# Altium footprint library PCBlib.PcbLib: 34 footprints (part 1 of 3)
Each footprint in its own frame and in the unit in brackets; x right, y up, seen from the top. Pads: shape width x height; smd on the part's side, far side on the other; paste and mask are expansions set on the pad; w line width, h text height; cw(c..) or ccw(c..) is an arc to the next point about the centre after c.
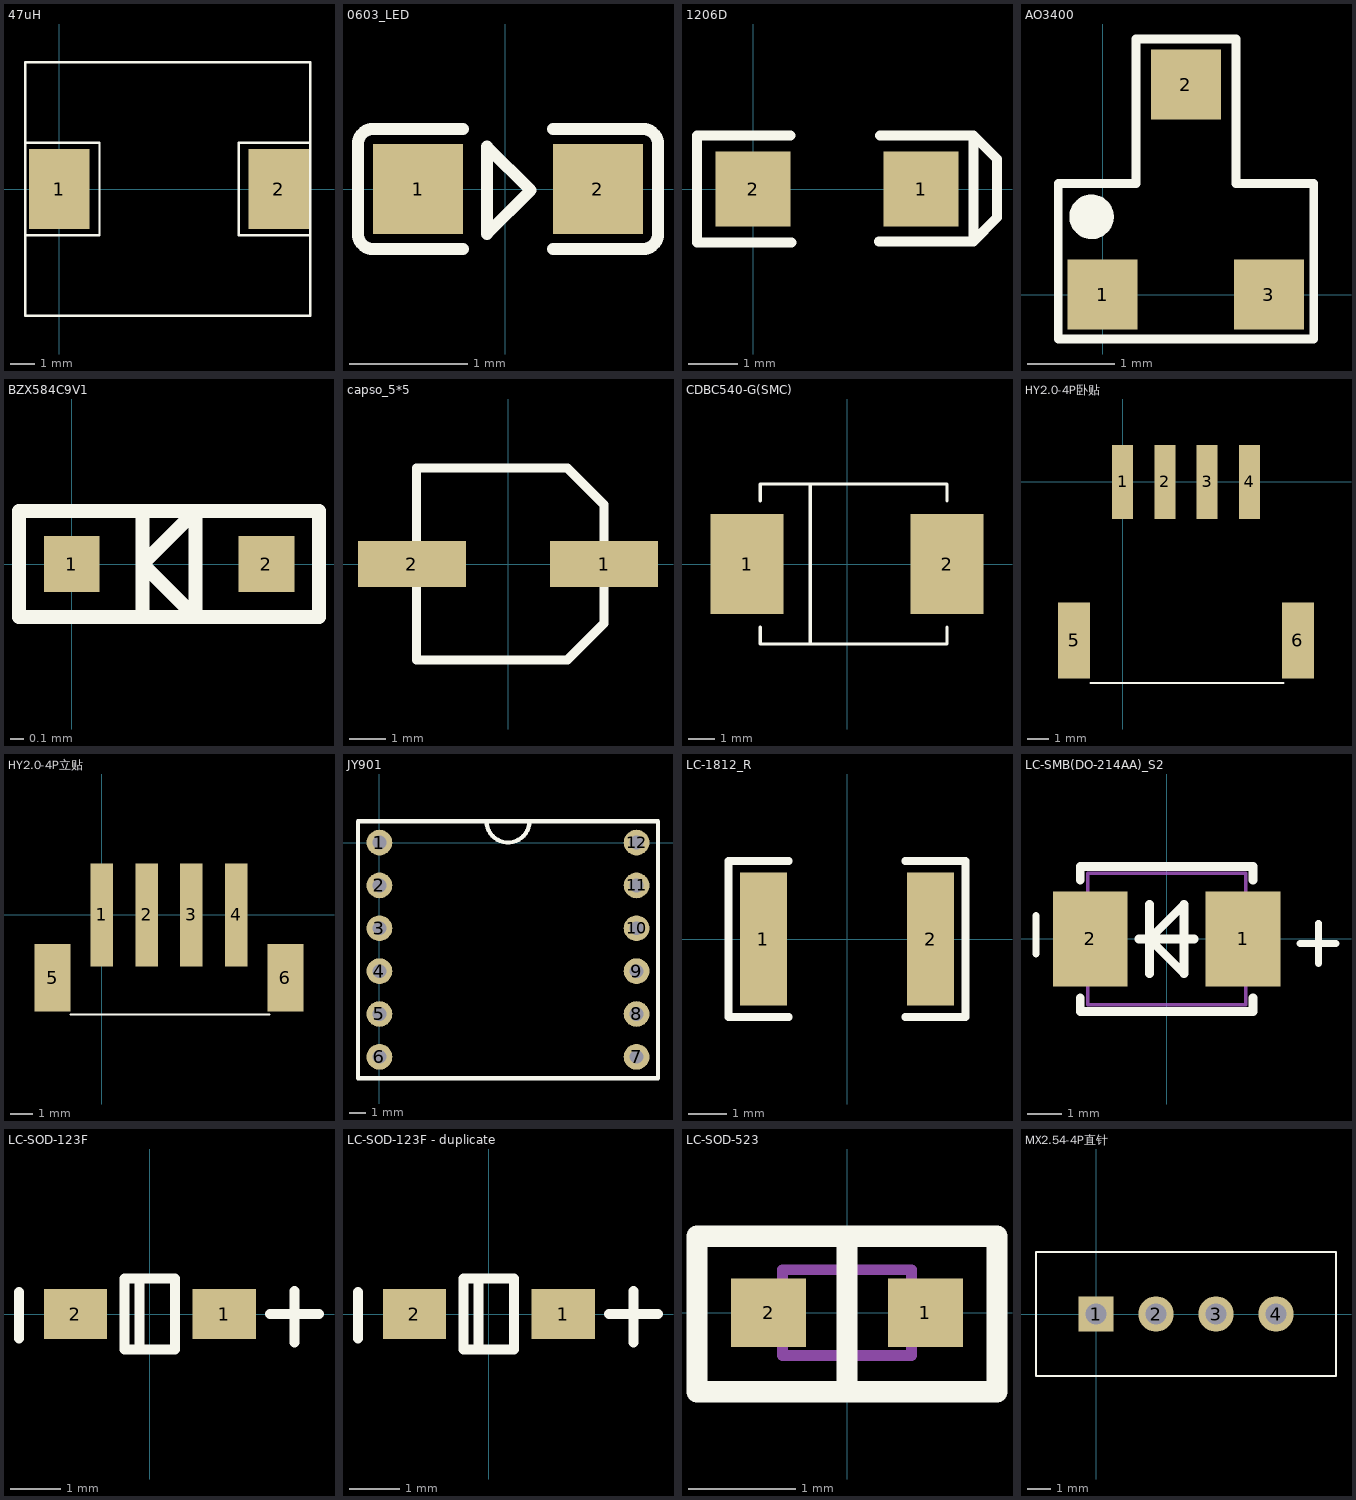
[diagram p0: the footprints below, top view; thin cyan lines are the x and y axes]

## 47uH [mm]
pads (2):
  rect 2.5x3.3 smd: 1(0,0) 2(9,0)
Top Overlay:
  lines w0.1: -1.397,-1.905 1.651,-1.905 1.651,1.905 -1.397,1.905 ; 10.294,-1.905 7.366,-1.905 7.366,1.905 10.294,1.905 ; -1.397,-5.2 -1.397,5.2 10.294,5.2 10.294,-5.2 -1.397,-5.2

## 0603_LED [mil]
pads (2):
  rect 30x30 smd: 1(-29,0) 2(31,0)
Top Overlay:
  lines w3.94: -6.02,-15 8.54,-0.43 -6.02,14.13 -6.02,-15
  lines w4: -14,-20 -44,-20 cw(c-44,-15) -49,-15 -49,15 cw(c-44,15) -44,20 -14,20 ; 16,-20 46,-20 ccw(c46,-15) 51,-15 51,15 ccw(c46,15) 46,20 16,20
3D body "led0805  green.step": height 43.31, standoff -0.5, extent -40,-25 40,25

## 1206D [mil]
pads (2):
  rect 60x60 smd: 1(135,0) 2(0,0)
Top Overlay:
  lines w8: -45,-43 -45,43 30,43 ; -44,-43 31,-43 ; 101,-42 176,-42 ; 102,43 177,43 ; 177,43 177,-42 196,-23 196,24 177,43
3D body "User Library-res1206-1.step": height 21.65, standoff 0, extent 5.02,-32.49 131,30.5

## AO3400 [mm]
pads (3):
  rect 0.8x0.8 smd: 1(0,0) 2(0.95,2.4) 3(1.9,0)
Top Overlay:
  circle w0.254: c-0.127,0.889 r0.127
  lines w0.1: -0.508,-0.508 -0.508,1.27 0.381,1.27 0.381,2.921 1.524,2.921 1.524,1.27 2.413,1.27 2.413,0.635 2.413,-0.508 -0.508,-0.508

## BZX584C9V1 [mm]
pads (2):
  rect 0.4x0.4 smd: 1(0,0) 2(1.4,0)
Top Overlay:
  lines w0.1: 0.508,-0.381 0.508,0.381 ; -0.381,-0.381 -0.381,0.381 1.778,0.381 1.778,-0.381 -0.381,-0.381 ; 0.508,0 0.889,0.381 0.889,-0.381 0.508,0

## capso_5*5 [mm]
pads (2):
  rect 3x1.274 smd: 1(2.667,0) 2(-2.667,0)
Top Overlay:
  lines w0.254: -2.54,-2.667 -2.54,2.667 1.651,2.667 2.667,1.651 2.667,-1.651 1.651,-2.667 -2.54,-2.667
3D body "User Library-ALU-C.STEP": height 5.41, standoff 0, extent -2.874,-2.565 3.026,2.735

## CDBC540-G(SMC) [mil] "Magnetic-Core Inductor with Winding Polarity Marking; 2 Leads"
pads (2):
  rect 110x150 smd: 1(-150,0) 2(150,0)
Top Overlay:
  lines w5: -130,-95 -130,-120 150,-120 150,-95 ; -130,95 -130,120 150,120 150,95 ; -55,-120 -55,120
Mechanical 1:
  lines w1: -130,-120 150,-120 ; -130,120 150,120

## HY2.0-4P卧贴 [mm]
pads (6):
  rect 1x3.5 smd: 1(0,0) 2(2,0) 3(4,0) 4(6,0)
  rect 1.5x3.6 smd: 5(-2.3,-7.5) 6(8.3,-7.5)
Top Overlay:
  lines w0.1: -1.524,-9.525 7.62,-9.525

## HY2.0-4P立贴 [mm]
pads (6):
  rect 1x4.6 smd: 1(0,0) 2(2,0) 3(4,0) 4(6,0)
  rect 1.6x3 smd: 5(-2.2,-2.8) 6(8.2,-2.8)
Top Overlay:
  lines w0.1: -1.397,-4.445 7.493,-4.445

## JY901 [mil]
pads (12):
  round 60 hole 32: 1(0,0) 2(0,-100) 3(0,-200) 4(0,-300) 5(0,-400) 6(0,-500) 7(600,-500) 8(600,-400) 9(600,-300) 10(600,-200) 11(600,-100) 12(600,0)
Top Overlay:
  lines w10: 250,50 ccw(c300,50) 350,50 ; -50,-550 650,-550 650,50 -50,50 -50,-550

## LC-1812_R [mm]
pads (2):
  rect 1.2x3.42 smd: 1(-2.15,0) 2(2.15,0)
Top Overlay:
  lines w0.2: -1.5,-2.01 -3.05,-2.01 -3.05,2.01 -1.5,2.01 ; 1.5,-2.01 3.05,-2.01 3.05,2.01 1.5,2.01
3D body "R1812.STEP": height 0.59, standoff -0.01, extent -2.251,-1.6 2.249,1.6

## LC-SMB(DO-214AA)_S2 [mm]
pads (2):
  rect 2.159x2.743 smd: 1(2.21,0) 2(-2.21,0)
Top Overlay:
  lines w0.2: -3.785,-0.432 -3.785,0.686 ; 3.861,-0.127 4.902,-0.127 ; 4.394,-0.711 4.394,0.457
  lines w0.254: -2.5,-1.7 -2.5,-2.1 2.5,-2.1 2.5,-1.7 ; -2.5,1.7 -2.5,2.1 2.5,2.1 2.5,1.7 ; -0.8,0 0.8,0 ; -0.5,-1 -0.5,1 ; -0.5,0 0.5,1 0.5,-1 -0.5,0
Mechanical 13:
  lines w0.1: -2.285,-1.905 2.285,-1.905 2.285,1.905 -2.285,1.905 -2.285,-1.905

## LC-SOD-123F [mm]
pads (2):
  rect 1.25x1 smd: 1(1.475,0) 2(-1.475,0)
Top Overlay:
  lines w0.2: -2.591,-0.483 -2.591,0.432 ; -0.2,-0.7 -0.2,0.7 ; 2.388,0 3.353,0 ; 2.87,-0.559 2.87,0.457 ; -0.5,-0.7 -0.5,0.7 0.5,0.7 0.5,-0.7 -0.5,-0.7
3D body "SOD123F.STEP": height 1.2, standoff -0.01, extent -1.9,-0.849 1.85,0.85

## LC-SOD-123F - duplicate [mm]
pads (2):
  rect 1.25x1 smd: 1(1.475,0) 2(-1.475,0)
Top Overlay:
  lines w0.2: -2.591,-0.483 -2.591,0.432 ; -0.2,-0.7 -0.2,0.7 ; 2.388,0 3.353,0 ; 2.87,-0.559 2.87,0.457 ; -0.5,-0.7 0.5,-0.7 0.5,0.7 -0.5,0.7 -0.5,-0.7
3D body "SOD123F.STEP": height 1.2, standoff -0.01, extent -1.9,-0.849 1.85,0.85

## LC-SOD-523 [mm]
pads (2):
  rect 0.7x0.64 smd: 1(0.73,0) 2(-0.73,0)
Top Overlay:
  lines w0.2: 0,-0.711 0,0.698 ; -1.397,-0.737 1.397,-0.737 1.397,0.711 -1.397,0.711 -1.397,-0.737
Mechanical 13:
  lines w0.1: -0.6,-0.4 0.6,-0.4 0.6,0.4 -0.6,0.4 -0.6,-0.4
3D body "SOD523.STEP": height 0.7, standoff 0, extent -0.8,-0.399 0.8,0.399

## MX2.54-4P直针 [mm]
pads (4):
  rect 1.5x1.5 hole 0.9: 1(0,0)
  round 1.5 hole 0.9: 2(2.54,0) 3(5.08,0) 4(7.62,0)
Top Overlay:
  lines w0.1: -2.54,-2.625 10.16,-2.625 10.16,2.625 -2.54,2.625 -2.54,-2.625